# EAGLE library part AS-ITM-00092 (library tinycircuits)
IC OPAMP GP 4MHZ RRO 8SO
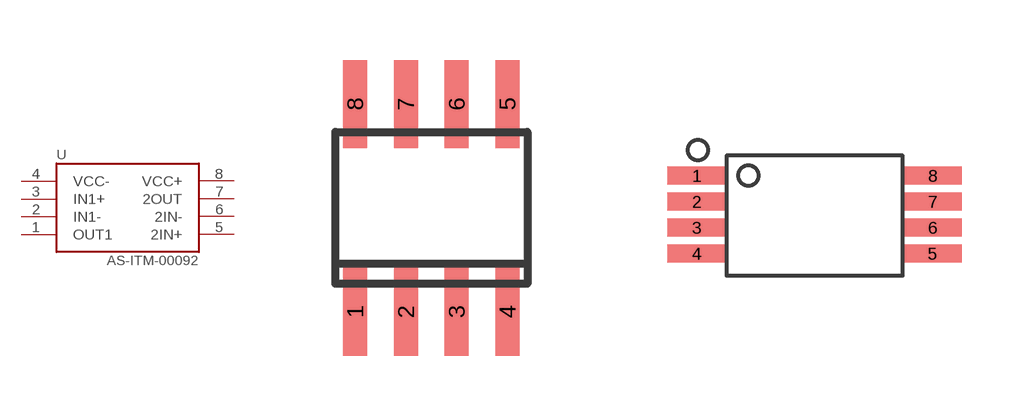
[diagram p37: symbol with the pads of SO-08; footprints SO-08, TSSOP(8)]

Designator prefix U

## AS-ITM-00092 (PARTNO: AS-ITM-00092; VALUE: TS922IDT)  [SO-08]
1  OUT1
2  IN1-
3  IN1+
4  VCC-
5  2IN+
6  2IN-
7  2OUT
8  VCC+

## AS-ITM-000921  [TSSOP(8)]
Pads as for SO-08

## AS-ITM-000922 (PARTNO: AS-ITM-00092; VALUE: TS922IDT)  [SO-08-COMPACT]
Pads as for SO-08

## Footprint SO-08 (pad centres in mm)
D (R-PDSO-G8) Plastic Small Outline Package Source: http://focus.ti.com/lit/ds/symlink/sn65als176.pdf
smd 0.6 x 2.2: 1 -1.905,-2.6; 2 -0.635,-2.6; 3 0.635,-2.6; 4 1.905,-2.6; 5 1.905,2.6; 6 0.635,2.6; 7 -0.635,2.6; 8 -1.905,2.6

## Footprint TSSOP(8) (pad centres in mm)
smd 1.45 x 0.45: 1 -3,1; 2 -3,0.35; 3 -3,-0.3; 4 -3,-0.95; 5 2.9,-0.95; 6 2.9,-0.3; 7 2.9,0.35; 8 2.9,1

## Footprint SO-08-COMPACT (pad centres in mm)
smd 0.6 x 1.4: 1 -1.905,-2.4; 2 -0.635,-2.4; 3 0.635,-2.4; 4 1.905,-2.4; 5 1.905,2.4; 6 0.635,2.4; 7 -0.635,2.4; 8 -1.905,2.4